# Altium schematic symbol library Header 6.SchLib: 1 symbol
Pins are listed as number, name and electrical type; pins without a type are passive.

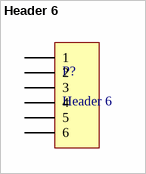
[diagram p0: symbol Header 6]

## Header 6
designator P?
footprint Header 6
pins: 1, 2, 3, 4, 5, 6